# Altium schematic symbol library Miscellaneous WGY.SchLib: 90 symbols
Pins are listed as number, name and electrical type; pins without a type are passive.

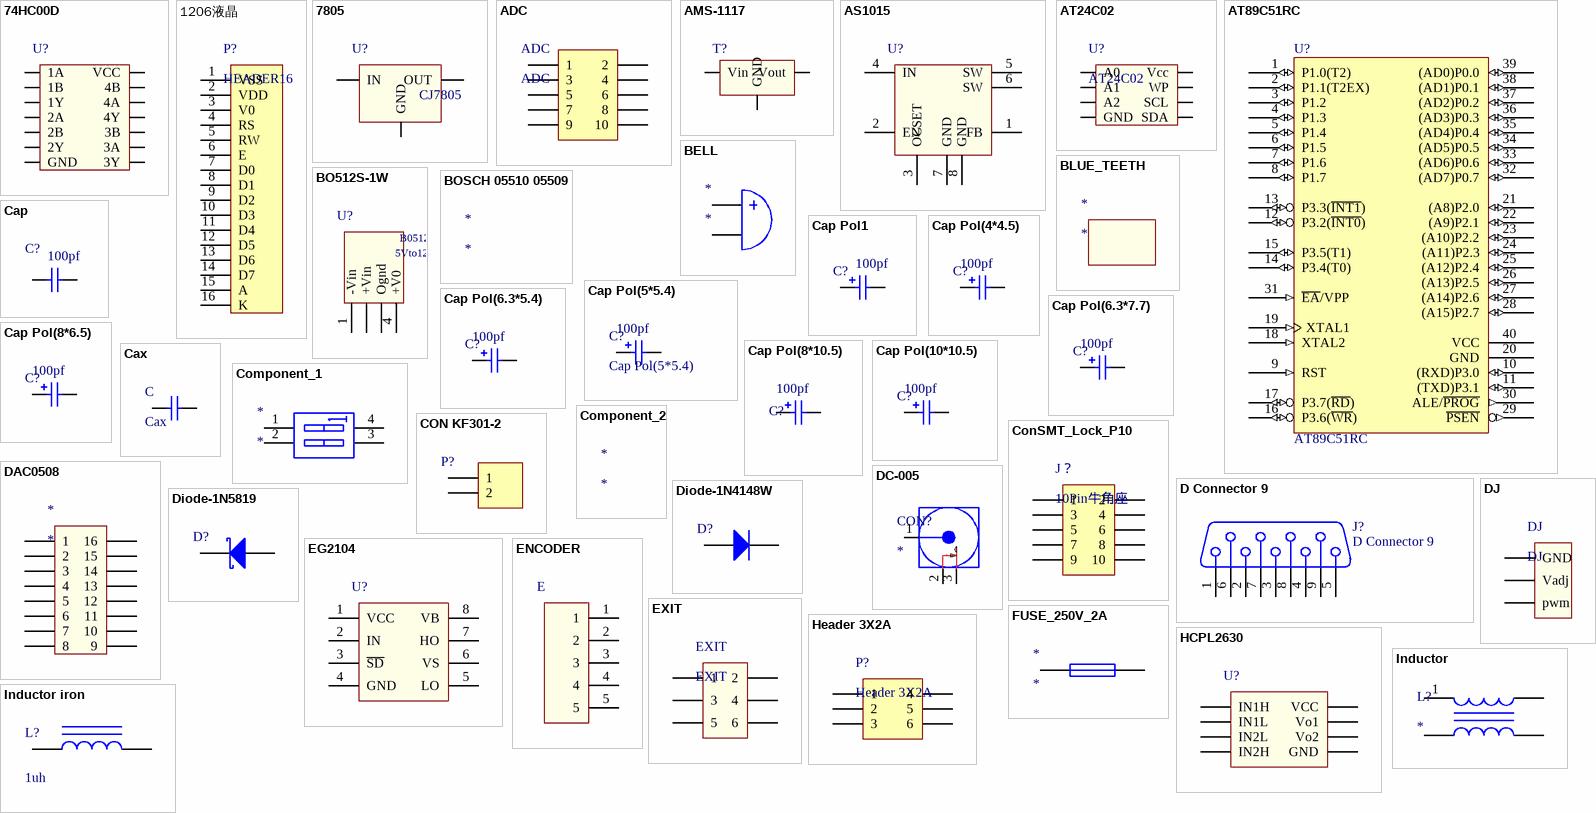
[diagram p0: symbols 74HC00D to Inductor iron]

## 74HC00D
designator U?
LC-SOIC-14_208mil - duplicate
footprint LC-SOIC-14_208mil - duplicate
pins: 1 1A, 2 1B, 3 1Y, 4 2A, 5 2B, 6 2Y, 7 GND, 8 3Y, 9 3A, 10 3B, 11 4Y, 12 4A, 13 4B, 14 VCC

## 1206液晶
designator P?, comment HEADER16
footprint 1602 (16footpin for 1602)
pins: 1 VSS, 2 VDD, 3 V0, 4 RS, 5 RW, 6 E, 7 D0, 8 D1, 9 D2, 10 D3, 11 D4, 12 D5, 13 D6, 14 D7, 15 A, 16 K

## 7805
designator U?
CJ(TO-252-2)
footprint LC-TO-252-2
pins: 1 IN, 2 GND, 3 OUT
text: CJ7805

## ADC
designator ADC
footprint ADC (Connector; Header; 5x2 Position)
pins: 1, 2, 3, 4, 5, 6, 7, 8, 9, 10

## AMS-1117
designator T?
footprint SOT230P700X180-4N (SOT223, 4-Leads, Body 6.55x7.00mm (avg), Pitch 2.30mm, IPC Medium Density)
pins: 1 GND, 2 Vout, 3 Vin

## AS1015
designator U?  (value not drawn)
300KHz, 5A Step-Down DC-DC Converter
footprint LC-SOP-8_150mil
pins: 1 FB, 2 EN, 3 OCSET, 4 IN, 5 SW, 6 SW, 7 GND, 8 GND

## AT24C02
designator U?
footprint DIP-8
pins: 1 A0, 2 A1, 3 A2, 4 GND, 5 SDA, 6 SCL, 7 WP, 8 Vcc

## AT89C51RC
designator U?
8-Bit Microcontroller with 32K Flash ROM
footprint DIP-40 (dip-40for)
pins: 1 P1.0(T2) (io), 2 P1.1(T2EX) (io), 3 P1.2 (io), 4 P1.3 (io), 5 P1.4 (io), 6 P1.5 (io), 7 P1.6 (io), 8 P1.7 (io), 9 RST (in), 10 (RXD)P3.0 (io), 11 (TXD)P3.1 (io), 12 P3.2(~{INT0}) (io), 13 P3.3(~{INT1}) (io), 14 P3.4(T0) (io), 15 P3.5(T1) (io), 16 P3.6(~{WR}) (io), 17 P3.7(~{RD}) (io), 18 XTAL2 (in), 19 XTAL1 (in), 20 GND (power), 21 (A8)P2.0 (io), 22 (A9)P2.1 (io), 23 (A10)P2.2 (io), 24 (A11)P2.3 (io), 25 (A12)P2.4 (io), 26 (A13)P2.5 (io), 27 (A14)P2.6 (io), 28 (A15)P2.7 (io), 29 ~{PSEN} (out), 30 ALE/~{PROG} (out), 31 ~{EA}/VPP (in), 32 (AD7)P0.7 (io), 33 (AD6)P0.6 (io), 34 (AD5)P0.5 (io), 35 (AD4)P0.4 (io), 36 (AD3)P0.3 (io), 37 (AD2)P0.2 (io), 38 (AD1)P0.1 (io), 39 (AD0)P0.0 (io), 40 VCC (power)

## BELL
designator *
footprint BELL_DIP2
pins: 1 A, 2 B

## BLUE_TEETH
designator *

## BO512S-1W
designator U?  (value not drawn)
footprint B0512
pins: 1 -Vin, 2 +Vin, 3 Ognd, 4 +V0
text: B0512-1W; 5Vto12V

## BOSCH 05510 05509
designator *

## Cap
designator C?
Capacitor
footprint LC-0805_C
pins: 1, 2
text: 100pf

## Cap Pol1
designator C?
Polarized Capacitor (Radial)
footprint CAP_6.3*7.7
pins: 1, 2
text: 100pf

## Cap Pol(4*4.5)
designator C?
Cap Pol(4*4.5)
footprint CAP_4*4.5
pins: 1, 2
text: 100pf

## Cap Pol(5*5.4)
designator C?
footprint CAP_5*5.4
pins: 1, 2
text: 100pf

## Cap Pol(6.3*5.4)
designator C?
Cap Pol(6.3*5.4)
footprint CAP_6.3*5.4
pins: 1, 2
text: 100pf

## Cap Pol(6.3*7.7)
designator C?
Cap Pol(6.3*7.7)
footprint CAP_6.3*7.7
pins: 1, 2
text: 100pf

## Cap Pol(8*6.5)
designator C?
Cap Pol(8*6.5)
pins: 1, 2
text: 100pf

## Cap Pol(8*10.5)
designator C?
Cap Pol(8*10.5)
footprint CAP_8*10.5 (Aluminum Electrolytic Capacitor, Body 8.30x8.30x10.50mm, IPC Medium Density)
pins: 1, 2
text: 100pf

## Cap Pol(10*10.5)
designator C?
Cap Pol(10*10.5)
footprint CAP_10*10.5
pins: 1, 2
text: 100pf

## Cax
designator C
footprint CX
pins: 1, 2

## Component_1
designator *
pins: 1 A1, 2 A2, 3 B2, 4 B1

## Component_2
designator *

## CON KF301-2
designator P?
Header, 2-Pin, Power
footprint KF301-2-5mm
pins: 1, 2

## ConSMT_Lock_P10
designator J？, comment 10Pin牛角座
10Pin带锁牛角
footprint LCC10
pins: 1, 2, 3, 4, 5, 6, 7, 8, 9, 10

## D Connector 9
designator J?
Receptacle Assembly, 9 Position, Right Angle; PackageDocument: O; Positions: 9; Published: 15-Jun-2001; LatestRevisionDate: 17-Jul-2002; LatestRevisionNote: Re-released for DXP Platform.; DatasheetDocument: 1-Sep-1999; PackageReference: 788750; Publisher: Altium Limited; Orientation: Right Angle; Gender: Receptacle
footprint con9
pins: 1, 2, 3, 4, 5, 6, 7, 8, 9

## DAC0508
designator *
footprint dip-16
pins: 1, 2, 3, 4, 5, 6, 7, 8, 9, 10, 11, 12, 13, 14, 15, 16

## DC-005
designator CON?
footprint DC-005
pins: 1, 2 GND (power), 3 GND (power)

## Diode-1N4148W
designator D?
Fast Switching Diode(SOD-123)
footprint LC-SOD-123
pins: 1 A, 2 K

## Diode-1N5819
designator D?
SchottkyBarrierDiode(SMA)
footprint LC-SMA(DO-214AC)_S2
pins: 1 A, 2 K

## DJ
designator DJ
footprint DJ
pins: 1 GND, 2 Vadj, 3 pwm

## EG2104
designator U?  (value not drawn)
footprint SOP-8_150mil
pins: 1 VCC, 2 IN, 3 ~{SD}, 4 GND, 5 LO, 6 VS, 7 HO, 8 VB

## ENCODER
designator E, comment encoder  (value not drawn)
pins: 1, 2, 3, 4, 5

## EXIT
designator EXIT
footprint EXIF
pins: 1, 2, 3, 4, 5, 6

## FUSE_250V_2A
designator *
footprint FUSE_200MIL
pins: 1, 2

## HCPL2630
designator U?  (value not drawn)
footprint LC-SMD-8_6.3mm
pins: 1 IN1H, 2 IN1L, 3 IN2L, 4 IN2H, 5 GND, 6 Vo2, 7 Vo1, 8 VCC

## Header 3X2A
designator P?
Header, 3-Pin, Dual row
footprint HDR2X3_CEN (Connector; Header; 3x2 Position)
pins: 1, 2, 3, 4, 5, 6

## Inductor
designator L?
footprint inductor10*13
pins: 1, 2, 3, 4

## Inductor iron
designator L?
CDRH127R
footprint CDRH127R
pins: 1, 2
text: 1uh

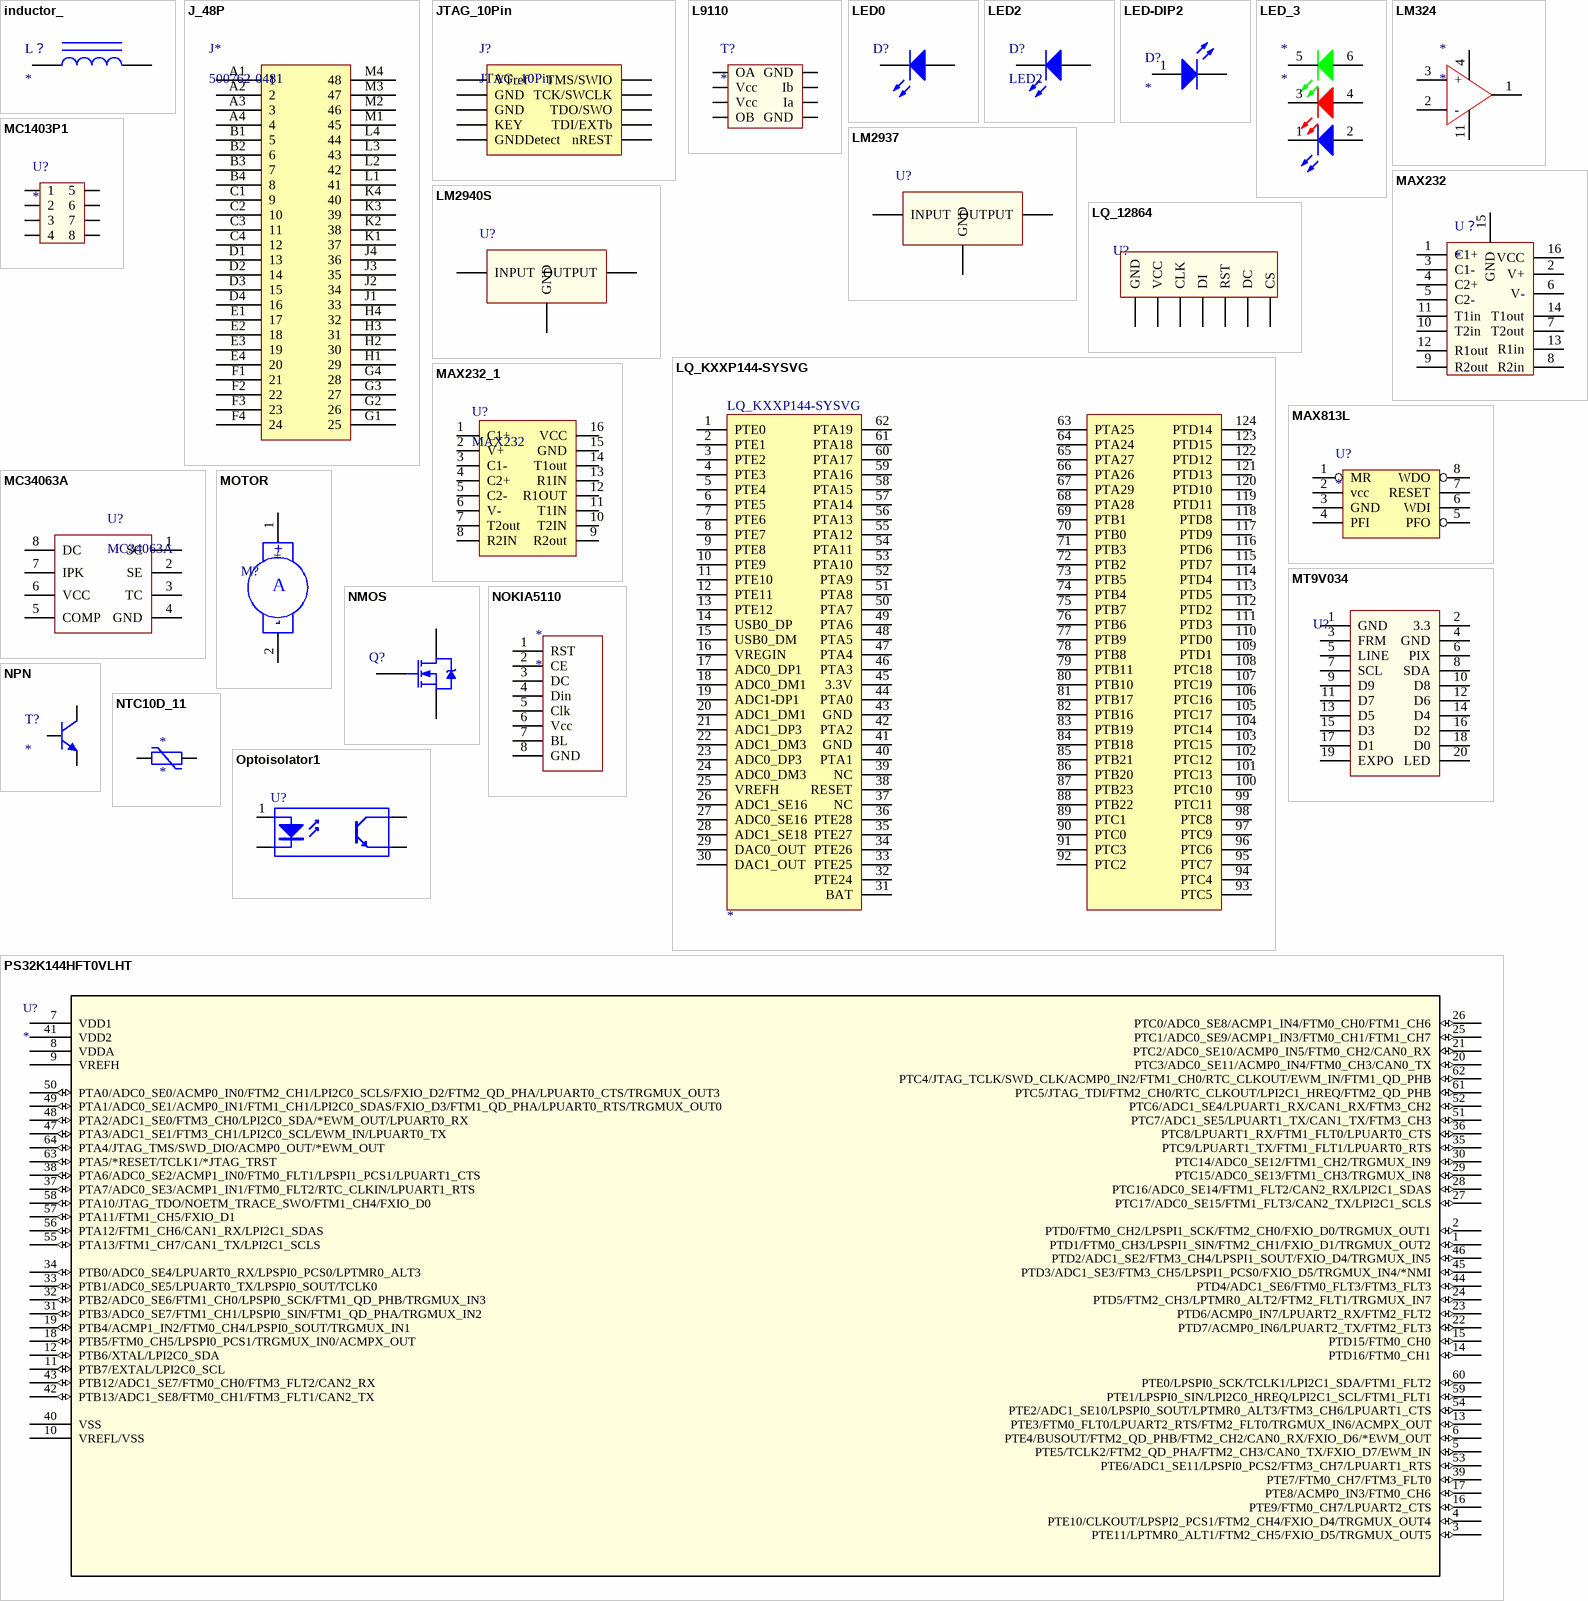
[diagram p1: symbols inductor_ to PS32K144HFT0VLHT]

## inductor_
designator L？
footprint INDP3535X21N (Precision Wire Wound Inductor, 2-Leads, Body 3.50x3.50mm, IPC Medium Density)
pins: 1, 2

## J_48P
designator J*, comment 500762-0481
MOLEX
footprint Molex_J_48P (500762-0481)
pins: A1 1, A2 2, A3 3, A4 4, B1 5, B2 6, B3 7, B4 8, C1 9, C2 10, C3 11, C4 12, D1 13, D2 14, D3 15, D4 16, E1 17, E2 18, E3 19, E4 20, F1 21, F2 22, F3 23, F4 24, G1 25, G2 26, G3 27, G4 28, H1 29, H2 30, H3 31, H4 32, J1 33, J2 34, J3 35, J4 36, K1 37, K2 38, K3 39, K4 40, L1 41, L2 42, L3 43, L4 44, M1 45, M2 46, M3 47, M4 48

## JTAG_10Pin
designator J?
footprint J_10P
pins: 1 VTref, 2 TMS/SWIO, 3 GND, 4 TCK/SWCLK, 5 GND, 6 TDO/SWO, 7 KEY, 8 TDI/EXTb, 9 GNDDetect, 10 nREST

## L9110
designator T?
footprint DIP-8
pins: 1 OA, 2 Vcc, 3 Vcc, 4 OB, 5 GND, 6 Ia, 7 Ib, 8 GND

## LED0
designator D?
Typical INFRARED GaAs LED
footprint LC-0805_LED_S4
pins: A, K

## LED2
designator D?
Typical RED, GREEN, YELLOW, AMBER GaAs LED
footprint LC-0805_LED_S4
pins: A, K

## LED-DIP2
designator D?
footprint LED-DIP2
pins: 1 A, 2 K

## LED_3
designator *
pins: 1, 2, 3, 4, 5, 6

## LM324
designator *
footprint DIP14
pins: 1, 2 -, 3 +, 4, 11

## LM2937
designator U?
LM2937ES(TO263-3)
footprint LC-TO-263-3
pins: 1 INPUT, 2 GND, 3 OUTPUT

## LM2940S
designator U?
LM2940S-5V(TO-263-3)
footprint LC-TO-263-3
pins: 1 INPUT, 2 GND, 3 OUTPUT

## LQ_12864
designator U?  (value not drawn)
footprint LQ_12864
pins: 1 GND, 2 VCC, 3 CLK, 4 DI, 5 RST, 6 DC, 7 CS

## LQ_KXXP144-SYSVG
designator LQ_KXXP144-SYSVG
footprint LQ_KXXP144-SYSVG
pins: 1 PTE0, 2 PTE1, 3 PTE2, 4 PTE3, 5 PTE4, 6 PTE5, 7 PTE6, 8 PTE7, 9 PTE8, 10 PTE9, 11 PTE10, 12 PTE11, 13 PTE12, 14 USB0_DP, 15 USB0_DM, 16 VREGIN, 17 ADC0_DP1, 18 ADC0_DM1, 19 ADC1-DP1, 20 ADC1_DM1, 21 ADC1_DP3, 22 ADC1_DM3, 23 ADC0_DP3, 24 ADC0_DM3, 25 VREFH, 26 ADC1_SE16, 27 ADC0_SE16, 28 ADC1_SE18, 29 DAC0_OUT, 30 DAC1_OUT, 31 BAT, 32 PTE24, 33 PTE25, 34 PTE26, 35 PTE27, 36 PTE28, 37 NC, 38 RESET, 39 NC, 40 PTA1, 41 GND, 42 PTA2, 43 GND, 44 PTA0, 45 3.3V, 46 PTA3, 47 PTA4, 48 PTA5, 49 PTA6, 50 PTA7, 51 PTA8, 52 PTA9, 53 PTA10, 54 PTA11, 55 PTA12, 56 PTA13, 57 PTA14, 58 PTA15, 59 PTA16, 60 PTA17, 61 PTA18, 62 PTA19, 63 PTA25, 64 PTA24, 65 PTA27, 66 PTA26, 67 PTA29, 68 PTA28, 69 PTB1, 70 PTB0, 71 PTB3, 72 PTB2, 73 PTB5, 74 PTB4, 75 PTB7, 76 PTB6, 77 PTB9, 78 PTB8, 79 PTB11, 80 PTB10, 81 PTB17, 82 PTB16, 83 PTB19, 84 PTB18, 85 PTB21, 86 PTB20, 87 PTB23, 88 PTB22, 89 PTC1, 90 PTC0, 91 PTC3, 92 PTC2, 93 PTC5, 94 PTC4, 95 PTC7, 96 PTC6, 97 PTC9, 98 PTC8, 99 PTC11, 100 PTC10, 101 PTC13, 102 PTC12, 103 PTC15, 104 PTC14, 105 PTC17, 106 PTC16, 107 PTC19, 108 PTC18, 109 PTD1, 110 PTD0, 111 PTD3, 112 PTD2, 113 PTD5, 114 PTD4, 115 PTD7, 116 PTD6, 117 PTD9, 118 PTD8, 119 PTD11, 120 PTD10, 121 PTD13, 122 PTD12, 123 PTD15, 124 PTD14

## MAX232
designator U？
footprint dip-16
pins: 1 C1+, 2 V+, 3 C1-, 4 C2+, 5 C2-, 6 V-, 7 T2out, 8 R2in, 9 R2out, 10 T2in, 11 T1in, 12 R1out, 13 R1in, 14 T1out, 15 GND, 16 VCC

## MAX232_1
designator U?, comment MAX232
footprint dip-16
pins: 1 C1+, 2 V+, 3 C1-, 4 C2+, 5 C2-, 6 V-, 7 T2out, 8 R2IN, 9 R2out, 10 T2IN, 11 T1IN, 12 R1OUT, 13 R1IN, 14 T1out, 15 GND, 16 VCC

## MAX813L
designator U?
footprint DIP-8
pins: 1 MR, 2 vcc, 3 GND, 4 PFI, 5 PFO, 6 WDI, 7 RESET, 8 WDO

## MC1403P1
designator U?
footprint DIP-8
pins: 1, 2, 3, 4, 5, 6, 7, 8

## MC34063A
designator U?
footprint SOP-8_150mil
pins: 1 SC, 2 SE, 3 TC, 4 GND, 5 COMP, 6 VCC, 7 IPK, 8 DC

## MOTOR
designator M?
NXP,540
footprint KF301-2-5mm
pins: 1 +, 2 -
text: A

## MT9V034
designator U?
footprint MT9
pins: 1 GND, 2 3.3, 3 FRM, 4 GND, 5 LINE, 6 PIX, 7 SCL, 8 SDA, 9 D9, 10 D8, 11 D7, 12 D6, 13 D5, 14 D4, 15 D3, 16 D2, 17 D1, 18 D0, 19 EXPO, 20 LED

## NMOS
designator Q?
N-Channel Power MOSFET
footprint LC-TO-252-2
pins: 1 G, 2 D, 3 S

## NOKIA5110
designator *
pins: 1 RST, 2 CE, 3 DC, 4 Din, 5 Clk, 6 Vcc, 7 BL, 8 GND

## NPN
designator T?
footprint SOT_23
pins: 1 C, 2 B, 3 E

## NTC10D_11
designator *
footprint NTC_10D_11
pins: 1, 2

## Optoisolator1
designator U?
4-Pin Phototransistor Optocoupler; Published: 24-Mar-1999; LatestRevisionDate: 04-Mar-2005; LatestRevisionNote: Sch pins 3 & 4 Swapped.; DatasheetVersion: Nov-2003; PackageReference: DIP-4; Publisher: Altium Limited
footprint DIP_4
pins: 1 A "Anode", 2 K "Cathode", 3 E "Emitter", 4 C "Collector"

## PS32K144HFT0VLHT
designator U?
Imported; Manufacturer_Part_Number: ps32k144hft0vlht; Vendor: NXP; Built_By: EMA_Jessica; Copyright: Copyright (C) 2016 Accelerated Designs. All rights reserved; Value: Value; Type: Type; RefDes: RefDes
footprint LQFP64_10X10-M
pins: 1 PTD1/FTM0_CH3/LPSPI1_SIN/FTM2_CH1/FXIO_D1/TRGMUX_OUT2 (io), 2 PTD0/FTM0_CH2/LPSPI1_SCK/FTM2_CH0/FXIO_D0/TRGMUX_OUT1 (io), 3 PTE11/LPTMR0_ALT1/FTM2_CH5/FXIO_D5/TRGMUX_OUT5 (io), 4 PTE10/CLKOUT/LPSPI2_PCS1/FTM2_CH4/FXIO_D4/TRGMUX_OUT4 (io), 5 PTE5/TCLK2/FTM2_QD_PHA/FTM2_CH3/CAN0_TX/FXIO_D7/EWM_IN (io), 6 PTE4/BUSOUT/FTM2_QD_PHB/FTM2_CH2/CAN0_RX/FXIO_D6/*EWM_OUT (io), 7 VDD1 (power), 8 VDDA (power), 9 VREFH (power), 10 VREFL/VSS (power), 11 PTB7/EXTAL/LPI2C0_SCL (io), 12 PTB6/XTAL/LPI2C0_SDA (io), 13 PTE3/FTM0_FLT0/LPUART2_RTS/FTM2_FLT0/TRGMUX_IN6/ACMPX_OUT (io), 14 PTD16/FTM0_CH1 (io), 15 PTD15/FTM0_CH0 (io), 16 PTE9/FTM0_CH7/LPUART2_CTS (io), 17 PTE8/ACMP0_IN3/FTM0_CH6 (io), 18 PTB5/FTM0_CH5/LPSPI0_PCS1/TRGMUX_IN0/ACMPX_OUT (io), 19 PTB4/ACMP1_IN2/FTM0_CH4/LPSPI0_SOUT/TRGMUX_IN1 (io), 20 PTC3/ADC0_SE11/ACMP0_IN4/FTM0_CH3/CAN0_TX (io), 21 PTC2/ADC0_SE10/ACMP0_IN5/FTM0_CH2/CAN0_RX (io), 22 PTD7/ACMP0_IN6/LPUART2_TX/FTM2_FLT3 (io), 23 PTD6/ACMP0_IN7/LPUART2_RX/FTM2_FLT2 (io), 24 PTD5/FTM2_CH3/LPTMR0_ALT2/FTM2_FLT1/TRGMUX_IN7 (io), 25 PTC1/ADC0_SE9/ACMP1_IN3/FTM0_CH1/FTM1_CH7 (io), 26 PTC0/ADC0_SE8/ACMP1_IN4/FTM0_CH0/FTM1_CH6 (io), 27 PTC17/ADC0_SE15/FTM1_FLT3/CAN2_TX/LPI2C1_SCLS (io), 28 PTC16/ADC0_SE14/FTM1_FLT2/CAN2_RX/LPI2C1_SDAS (io), 29 PTC15/ADC0_SE13/FTM1_CH3/TRGMUX_IN8 (io), 30 PTC14/ADC0_SE12/FTM1_CH2/TRGMUX_IN9 (io), 31 PTB3/ADC0_SE7/FTM1_CH1/LPSPI0_SIN/FTM1_QD_PHA/TRGMUX_IN2 (io), 32 PTB2/ADC0_SE6/FTM1_CH0/LPSPI0_SCK/FTM1_QD_PHB/TRGMUX_IN3 (io), 33 PTB1/ADC0_SE5/LPUART0_TX/LPSPI0_SOUT/TCLK0 (io), 34 PTB0/ADC0_SE4/LPUART0_RX/LPSPI0_PCS0/LPTMR0_ALT3 (io), 35 PTC9/LPUART1_TX/FTM1_FLT1/LPUART0_RTS (io), 36 PTC8/LPUART1_RX/FTM1_FLT0/LPUART0_CTS (io), 37 PTA7/ADC0_SE3/ACMP1_IN1/FTM0_FLT2/RTC_CLKIN/LPUART1_RTS (io), 38 PTA6/ADC0_SE2/ACMP1_IN0/FTM0_FLT1/LPSPI1_PCS1/LPUART1_CTS (io), 39 PTE7/FTM0_CH7/FTM3_FLT0 (io), 40 VSS (power), 41 VDD2 (power), 42 PTB13/ADC1_SE8/FTM0_CH1/FTM3_FLT1/CAN2_TX (io), 43 PTB12/ADC1_SE7/FTM0_CH0/FTM3_FLT2/CAN2_RX (io), 44 PTD4/ADC1_SE6/FTM0_FLT3/FTM3_FLT3 (io), 45 PTD3/ADC1_SE3/FTM3_CH5/LPSPI1_PCS0/FXIO_D5/TRGMUX_IN4/*NMI (io), 46 PTD2/ADC1_SE2/FTM3_CH4/LPSPI1_SOUT/FXIO_D4/TRGMUX_IN5 (io), 47 PTA3/ADC1_SE1/FTM3_CH1/LPI2C0_SCL/EWM_IN/LPUART0_TX (io), 48 PTA2/ADC1_SE0/FTM3_CH0/LPI2C0_SDA/*EWM_OUT/LPUART0_RX (io), 49 PTA1/ADC0_SE1/ACMP0_IN1/FTM1_CH1/LPI2C0_SDAS/FXIO_D3/FTM1_QD_PHA/LPUART0_RTS/TRGMUX_OUT0 (io), 50 PTA0/ADC0_SE0/ACMP0_IN0/FTM2_CH1/LPI2C0_SCLS/FXIO_D2/FTM2_QD_PHA/LPUART0_CTS/TRGMUX_OUT3 (io), 51 PTC7/ADC1_SE5/LPUART1_TX/CAN1_TX/FTM3_CH3 (io), 52 PTC6/ADC1_SE4/LPUART1_RX/CAN1_RX/FTM3_CH2 (io), 53 PTE6/ADC1_SE11/LPSPI0_PCS2/FTM3_CH7/LPUART1_RTS (io), 54 PTE2/ADC1_SE10/LPSPI0_SOUT/LPTMR0_ALT3/FTM3_CH6/LPUART1_CTS (io), 55 PTA13/FTM1_CH7/CAN1_TX/LPI2C1_SCLS (io), 56 PTA12/FTM1_CH6/CAN1_RX/LPI2C1_SDAS (io), 57 PTA11/FTM1_CH5/FXIO_D1 (io), 58 PTA10/JTAG_TDO/NOETM_TRACE_SWO/FTM1_CH4/FXIO_D0 (io), 59 PTE1/LPSPI0_SIN/LPI2C0_HREQ/LPI2C1_SCL/FTM1_FLT1 (io), 60 PTE0/LPSPI0_SCK/TCLK1/LPI2C1_SDA/FTM1_FLT2 (io), 61 PTC5/JTAG_TDI/FTM2_CH0/RTC_CLKOUT/LPI2C1_HREQ/FTM2_QD_PHB (io), 62 PTC4/JTAG_TCLK/SWD_CLK/ACMP0_IN2/FTM1_CH0/RTC_CLKOUT/EWM_IN/FTM1_QD_PHB (io), 63 PTA5/*RESET/TCLK1/*JTAG_TRST (io), 64 PTA4/JTAG_TMS/SWD_DIO/ACMP0_OUT/*EWM_OUT (io)

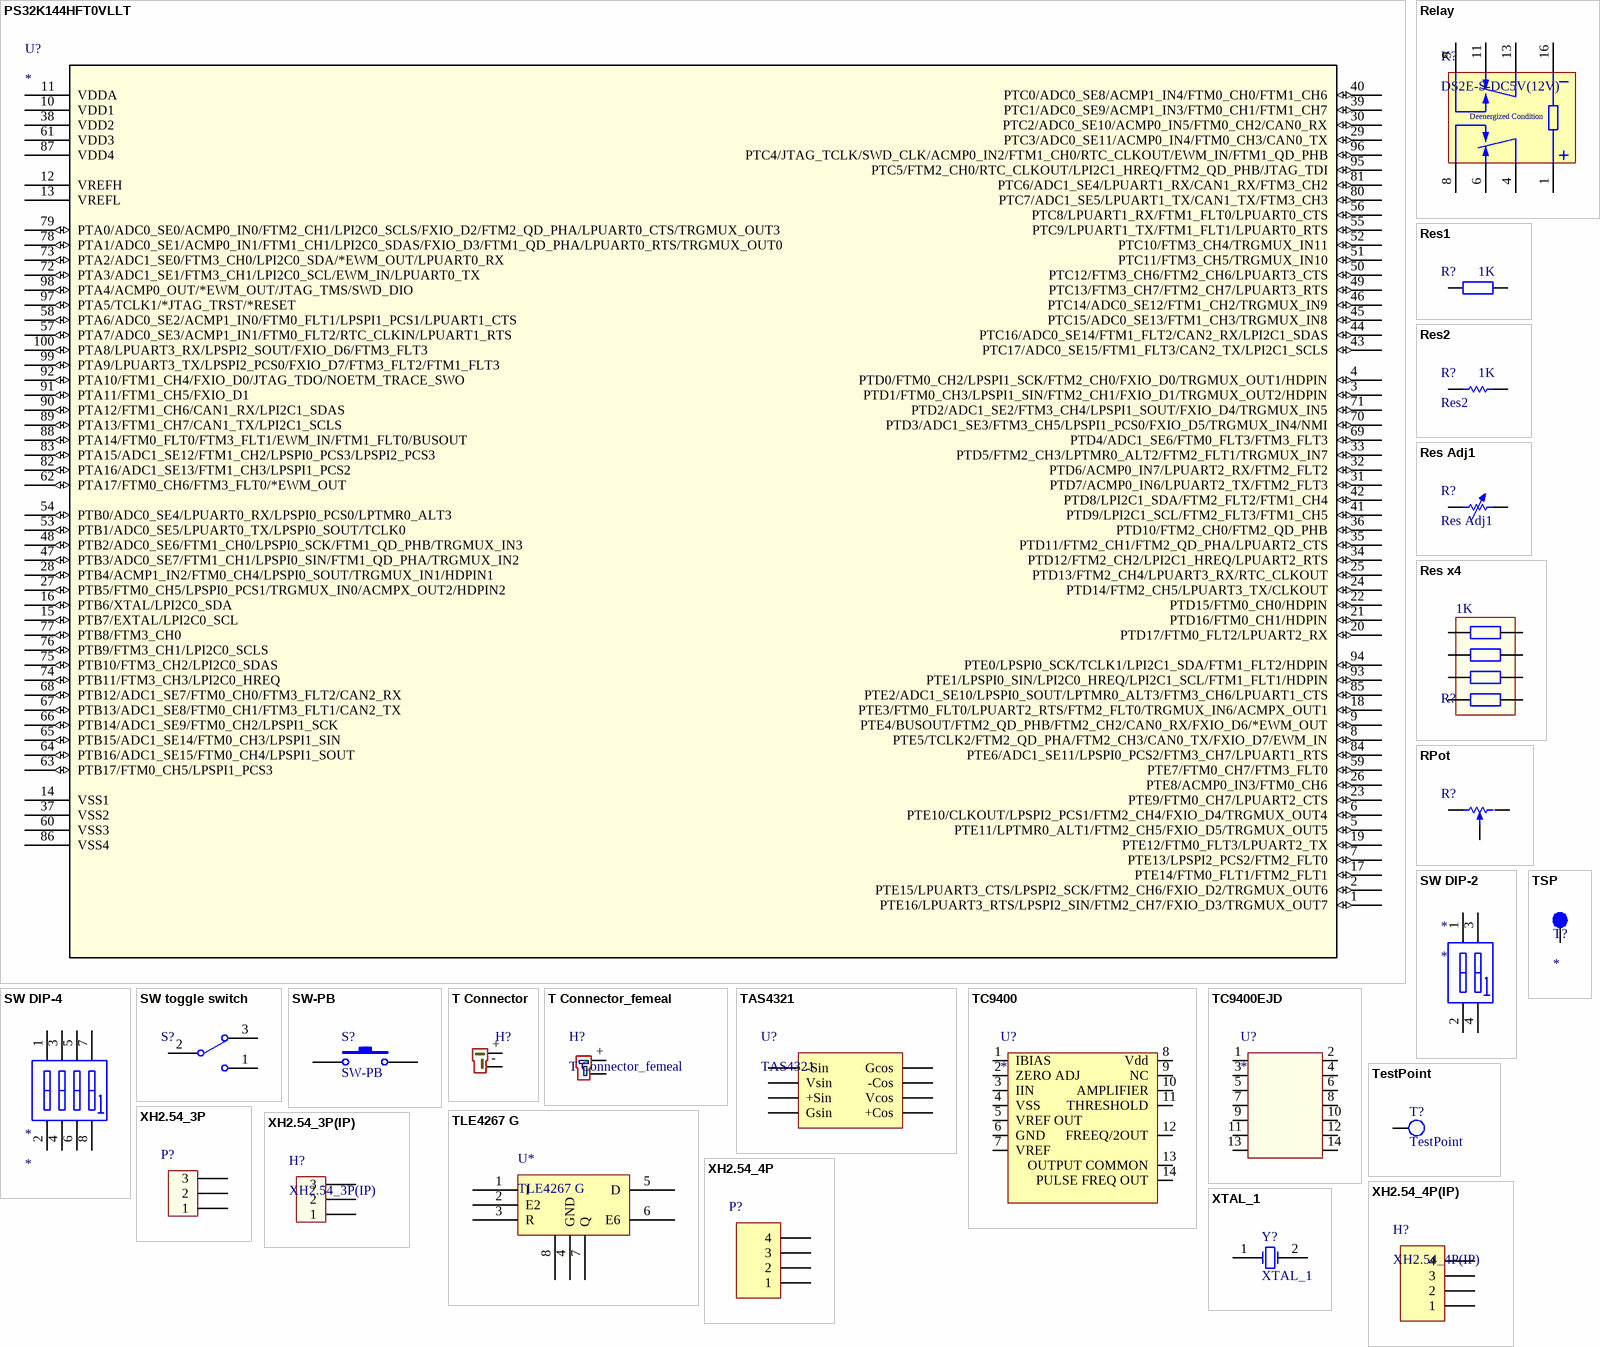
[diagram p2: symbols PS32K144HFT0VLLT to XTAL_1]

## PS32K144HFT0VLLT
designator U?
Imported; Manufacturer_Part_Number: ps32k144hft0vllt; Built_By: EMA_Jessica; Vendor: NXP; Copyright: Copyright (C) 2016 Accelerated Designs. All rights reserved; Value: Value; Type: Type; RefDes: RefDes
footprint LQFP100_14X14-M
footprint LQFP100_14X14
footprint LQFP100_14X14-L
pins: 1 PTE16/LPUART3_RTS/LPSPI2_SIN/FTM2_CH7/FXIO_D3/TRGMUX_OUT7 (io), 2 PTE15/LPUART3_CTS/LPSPI2_SCK/FTM2_CH6/FXIO_D2/TRGMUX_OUT6 (io), 3 PTD1/FTM0_CH3/LPSPI1_SIN/FTM2_CH1/FXIO_D1/TRGMUX_OUT2/HDPIN (io), 4 PTD0/FTM0_CH2/LPSPI1_SCK/FTM2_CH0/FXIO_D0/TRGMUX_OUT1/HDPIN (io), 5 PTE11/LPTMR0_ALT1/FTM2_CH5/FXIO_D5/TRGMUX_OUT5 (io), 6 PTE10/CLKOUT/LPSPI2_PCS1/FTM2_CH4/FXIO_D4/TRGMUX_OUT4 (io), 7 PTE13/LPSPI2_PCS2/FTM2_FLT0 (io), 8 PTE5/TCLK2/FTM2_QD_PHA/FTM2_CH3/CAN0_TX/FXIO_D7/EWM_IN (io), 9 PTE4/BUSOUT/FTM2_QD_PHB/FTM2_CH2/CAN0_RX/FXIO_D6/*EWM_OUT (io), 10 VDD1 (power), 11 VDDA (power), 12 VREFH (power), 13 VREFL (power), 14 VSS1 (power), 15 PTB7/EXTAL/LPI2C0_SCL (io), 16 PTB6/XTAL/LPI2C0_SDA (io), 17 PTE14/FTM0_FLT1/FTM2_FLT1 (io), 18 PTE3/FTM0_FLT0/LPUART2_RTS/FTM2_FLT0/TRGMUX_IN6/ACMPX_OUT1 (io), 19 PTE12/FTM0_FLT3/LPUART2_TX (io), 20 PTD17/FTM0_FLT2/LPUART2_RX (io), 21 PTD16/FTM0_CH1/HDPIN (io), 22 PTD15/FTM0_CH0/HDPIN (io), 23 PTE9/FTM0_CH7/LPUART2_CTS (io), 24 PTD14/FTM2_CH5/LPUART3_TX/CLKOUT (io), 25 PTD13/FTM2_CH4/LPUART3_RX/RTC_CLKOUT (io), 26 PTE8/ACMP0_IN3/FTM0_CH6 (io), 27 PTB5/FTM0_CH5/LPSPI0_PCS1/TRGMUX_IN0/ACMPX_OUT2/HDPIN2 (io), 28 PTB4/ACMP1_IN2/FTM0_CH4/LPSPI0_SOUT/TRGMUX_IN1/HDPIN1 (io), 29 PTC3/ADC0_SE11/ACMP0_IN4/FTM0_CH3/CAN0_TX (io), 30 PTC2/ADC0_SE10/ACMP0_IN5/FTM0_CH2/CAN0_RX (io), 31 PTD7/ACMP0_IN6/LPUART2_TX/FTM2_FLT3 (io), 32 PTD6/ACMP0_IN7/LPUART2_RX/FTM2_FLT2 (io), 33 PTD5/FTM2_CH3/LPTMR0_ALT2/FTM2_FLT1/TRGMUX_IN7 (io), 34 PTD12/FTM2_CH2/LPI2C1_HREQ/LPUART2_RTS (io), 35 PTD11/FTM2_CH1/FTM2_QD_PHA/LPUART2_CTS (io), 36 PTD10/FTM2_CH0/FTM2_QD_PHB (io), 37 VSS2 (power), 38 VDD2 (power), 39 PTC1/ADC0_SE9/ACMP1_IN3/FTM0_CH1/FTM1_CH7 (io), 40 PTC0/ADC0_SE8/ACMP1_IN4/FTM0_CH0/FTM1_CH6 (io), 41 PTD9/LPI2C1_SCL/FTM2_FLT3/FTM1_CH5 (io), 42 PTD8/LPI2C1_SDA/FTM2_FLT2/FTM1_CH4 (io), 43 PTC17/ADC0_SE15/FTM1_FLT3/CAN2_TX/LPI2C1_SCLS (io), 44 PTC16/ADC0_SE14/FTM1_FLT2/CAN2_RX/LPI2C1_SDAS (io), 45 PTC15/ADC0_SE13/FTM1_CH3/TRGMUX_IN8 (io), 46 PTC14/ADC0_SE12/FTM1_CH2/TRGMUX_IN9 (io), 47 PTB3/ADC0_SE7/FTM1_CH1/LPSPI0_SIN/FTM1_QD_PHA/TRGMUX_IN2 (io), 48 PTB2/ADC0_SE6/FTM1_CH0/LPSPI0_SCK/FTM1_QD_PHB/TRGMUX_IN3 (io), 49 PTC13/FTM3_CH7/FTM2_CH7/LPUART3_RTS (io), 50 PTC12/FTM3_CH6/FTM2_CH6/LPUART3_CTS (io), 51 PTC11/FTM3_CH5/TRGMUX_IN10 (io), 52 PTC10/FTM3_CH4/TRGMUX_IN11 (io), 53 PTB1/ADC0_SE5/LPUART0_TX/LPSPI0_SOUT/TCLK0 (io), 54 PTB0/ADC0_SE4/LPUART0_RX/LPSPI0_PCS0/LPTMR0_ALT3 (io), 55 PTC9/LPUART1_TX/FTM1_FLT1/LPUART0_RTS (io), 56 PTC8/LPUART1_RX/FTM1_FLT0/LPUART0_CTS (io), 57 PTA7/ADC0_SE3/ACMP1_IN1/FTM0_FLT2/RTC_CLKIN/LPUART1_RTS (io), 58 PTA6/ADC0_SE2/ACMP1_IN0/FTM0_FLT1/LPSPI1_PCS1/LPUART1_CTS (io), 59 PTE7/FTM0_CH7/FTM3_FLT0 (io), 60 VSS3 (power), 61 VDD3 (power), 62 PTA17/FTM0_CH6/FTM3_FLT0/*EWM_OUT (io), 63 PTB17/FTM0_CH5/LPSPI1_PCS3 (io), 64 PTB16/ADC1_SE15/FTM0_CH4/LPSPI1_SOUT (io), 65 PTB15/ADC1_SE14/FTM0_CH3/LPSPI1_SIN (io), 66 PTB14/ADC1_SE9/FTM0_CH2/LPSPI1_SCK (io), 67 PTB13/ADC1_SE8/FTM0_CH1/FTM3_FLT1/CAN2_TX (io), 68 PTB12/ADC1_SE7/FTM0_CH0/FTM3_FLT2/CAN2_RX (io), 69 PTD4/ADC1_SE6/FTM0_FLT3/FTM3_FLT3 (io), 70 PTD3/ADC1_SE3/FTM3_CH5/LPSPI1_PCS0/FXIO_D5/TRGMUX_IN4/NMI (io), 71 PTD2/ADC1_SE2/FTM3_CH4/LPSPI1_SOUT/FXIO_D4/TRGMUX_IN5 (io), 72 PTA3/ADC1_SE1/FTM3_CH1/LPI2C0_SCL/EWM_IN/LPUART0_TX (io), 73 PTA2/ADC1_SE0/FTM3_CH0/LPI2C0_SDA/*EWM_OUT/LPUART0_RX (io), 74 PTB11/FTM3_CH3/LPI2C0_HREQ (io), 75 PTB10/FTM3_CH2/LPI2C0_SDAS (io), 76 PTB9/FTM3_CH1/LPI2C0_SCLS (io), 77 PTB8/FTM3_CH0 (io), 78 PTA1/ADC0_SE1/ACMP0_IN1/FTM1_CH1/LPI2C0_SDAS/FXIO_D3/FTM1_QD_PHA/LPUART0_RTS/TRGMUX_OUT0 (io), 79 PTA0/ADC0_SE0/ACMP0_IN0/FTM2_CH1/LPI2C0_SCLS/FXIO_D2/FTM2_QD_PHA/LPUART0_CTS/TRGMUX_OUT3 (io), 80 PTC7/ADC1_SE5/LPUART1_TX/CAN1_TX/FTM3_CH3 (io), 81 PTC6/ADC1_SE4/LPUART1_RX/CAN1_RX/FTM3_CH2 (io), 82 PTA16/ADC1_SE13/FTM1_CH3/LPSPI1_PCS2 (io), 83 PTA15/ADC1_SE12/FTM1_CH2/LPSPI0_PCS3/LPSPI2_PCS3 (io), 84 PTE6/ADC1_SE11/LPSPI0_PCS2/FTM3_CH7/LPUART1_RTS (io), 85 PTE2/ADC1_SE10/LPSPI0_SOUT/LPTMR0_ALT3/FTM3_CH6/LPUART1_CTS (io), 86 VSS4 (power), 87 VDD4 (power), 88 PTA14/FTM0_FLT0/FTM3_FLT1/EWM_IN/FTM1_FLT0/BUSOUT (io), 89 PTA13/FTM1_CH7/CAN1_TX/LPI2C1_SCLS (io), 90 PTA12/FTM1_CH6/CAN1_RX/LPI2C1_SDAS (io), 91 PTA11/FTM1_CH5/FXIO_D1 (io), 92 PTA10/FTM1_CH4/FXIO_D0/JTAG_TDO/NOETM_TRACE_SWO (io), 93 PTE1/LPSPI0_SIN/LPI2C0_HREQ/LPI2C1_SCL/FTM1_FLT1/HDPIN (io), 94 PTE0/LPSPI0_SCK/TCLK1/LPI2C1_SDA/FTM1_FLT2/HDPIN (io), 95 PTC5/FTM2_CH0/RTC_CLKOUT/LPI2C1_HREQ/FTM2_QD_PHB/JTAG_TDI (io), 96 PTC4/JTAG_TCLK/SWD_CLK/ACMP0_IN2/FTM1_CH0/RTC_CLKOUT/EWM_IN/FTM1_QD_PHB (io), 97 PTA5/TCLK1/*JTAG_TRST/*RESET (io), 98 PTA4/ACMP0_OUT/*EWM_OUT/JTAG_TMS/SWD_DIO (io), 99 PTA9/LPUART3_TX/LPSPI2_PCS0/FXIO_D7/FTM3_FLT2/FTM1_FLT3 (io), 100 PTA8/LPUART3_RX/LPSPI2_SOUT/FXIO_D6/FTM3_FLT3 (io)

## Relay
designator K?, comment DS2E-S-DC5V(12V)
DS2E-S-DC5V Single side stable
footprint DS2E-S-DC5V
pins: 1, 4, 6, 8, 9, 11, 13, 16
text: Deenergized Condition

## Res1
designator R?
Resistor
footprint LC-0805_R
pins: 1, 2
text: 1K

## Res2
designator R?
Resistor(power)
footprint LC-0603_R
pins: 1, 2
text: 1K

## Res Adj1
designator R?
Variable Resistor
pins: 1, 2

## Res x4
designator R?
(0603)
footprint LC-0603_Rx4
pins: 1, 2, 3, 4, 5, 6, 7, 8
text: 1K

## RPot
designator R?
3362P,单圈精密可调电阻，3362电位器，玻璃釉电位器
footprint 3362P
pins: 1, 2, 3

## SW DIP-2
designator *
footprint SW-DIP-2
pins: 1 A1, 2 A2, 3 B2, 4 B1

## SW DIP-4
designator *
footprint SW-DIP-4
pins: 1 A1, 2 A2, 3 A3, 4 A4, 5 B4, 6 B3, 7 B2, 8 B1

## SW toggle switch
designator S?
MTS-102
footprint MTS-102
pins: 1, 2, 3

## SW-PB
designator S?
Switch
footprint SMT-(switch-2)
pins: 1, 2

## T Connector
designator H?
footprint T_connector
pins: + (power) "Live (Active)", - (power) "Neutral"

## T Connector_femeal
designator H?
femeal_connect
footprint T_connector_femeal
pins: + (power) "Live (Active)", - (power) "Neutral"

## TAS4321
designator U?
footprint TSSOP8 (TSOP, 8-Leads, Body 3.00x4.40mm, Pitch 0.65mm, IPC Medium Density)
pins: 1 -Sin, 2 Vsin, 3 +Sin, 4 Gsin, 5 +Cos, 6 Vcos, 7 -Cos, 8 Gcos

## TC9400
designator U?
footprint DIP14
pins: 1 IBIAS, 2 ZERO ADJ, 3 IIN, 4 VSS, 5 VREF OUT, 6 GND, 7 VREF, 8 Vdd, 9 NC, 10 AMPLIFIER, 11 THRESHOLD, 12 FREEQ/2OUT, 13 OUTPUT COMMON, 14 PULSE FREQ OUT

## TC9400EJD
designator U?
footprint DIP14
pins: 1, 2, 3, 4, 5, 6, 7, 8, 9, 10, 11, 12, 13, 14

## TestPoint
designator T?
footprint TSP (Testpoint)
pins: 1

## TLE4267 G
designator U*
pins: 1 I, 2 E2, 3 R, 4 GND, 5 D, 6 E6, 7 Q, 8

## TSP
designator T?
footprint TSP
pins: 1

## XH2.54_3P
designator P?
footprint SMT-(XH2.54_3)
pins: 1, 2, 3

## XH2.54_3P(IP)
designator H?
footprint XH2.54-3(IP)
pins: 1, 2, 3

## XH2.54_4P
designator P?
SMT,4P,2.54MM
footprint SMT-(XH2.54_4)
pins: 1, 2, 3, 4

## XH2.54_4P(IP)
designator H?
footprint XH2.54_4P(IP)
pins: 1, 2, 3, 4

## XTAL_1
designator Y?
Crystal Oscillator; Published: 8-Jun-2000; LatestRevisionDate: 17-Jul-2002; LatestRevisionNote: Re-released for DXP Platform.; PackageReference: R38; Publisher: Altium Limited; PackageDescription: Crystal, Thru-Hole; 2 Leads; Body 3.1 x 8.2 mm (Dia.xH)
footprint XTAL
pins: 1 OSC1, 2 OSC2